# EAGLE library part FDS5670 (library FDS5670)
ON SEMICONDUCTOR - FDS5670 - MOSFET Transistor, N Channel, 10 A, 60 V, 0.014 ohm, 10 V, 2.4 V Source: Datasheet <https://eagle.componentsearchengine.com/Datasheets/2/FDS5670.pdf>
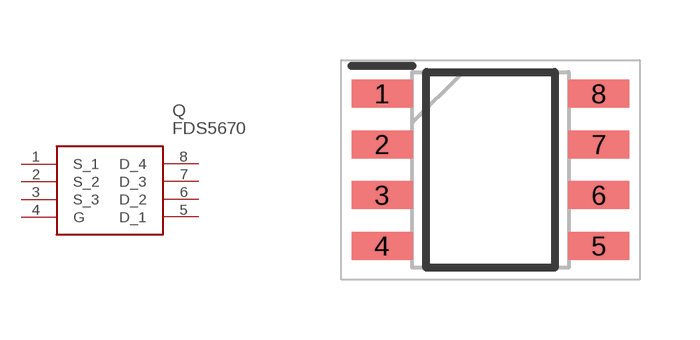
[diagram p0: symbol with the pads of SOIC127P600X175-8N; footprint SOIC127P600X175-8N]

Designator prefix Q

## FDS5670 (Arrow_Part_Number: FDS5670; Arrow_Price-Stock: https://www.arrow.com/en/products/fds5670/on-semiconductor; Description: ON SEMICONDUCTOR - FDS5670 - MOSFET Transistor, N Channel, 10 A, 60 V, 0.014 ohm, 10 V, 2.4 V; Height: 1.75mm; Manufacturer_Name: ON Semiconductor; Manufacturer_Part_Number: FDS5670; Mouser_Part_Number: 512-FDS5670; Mouser_Price-Stock: https://www.mouser.com/Search/Refine.aspx?Keyword=512-FDS5670)  [SOIC127P600X175-8N]
1  S_1
2  S_2
3  S_3
4  G
5  D_1
6  D_2
7  D_3
8  D_4

## Footprint SOIC127P600X175-8N (pad centres in mm)
8-Pin SOIC
smd 1.525 x 0.7: 1 -2.712,1.905; 2 -2.712,0.635; 3 -2.712,-0.635; 4 -2.712,-1.905; 5 2.712,-1.905; 6 2.712,-0.635; 7 2.712,0.635; 8 2.712,1.905